# EAGLE library part RKJXM1_V3 (library RKJXM1 Breakout Output Pins v14)
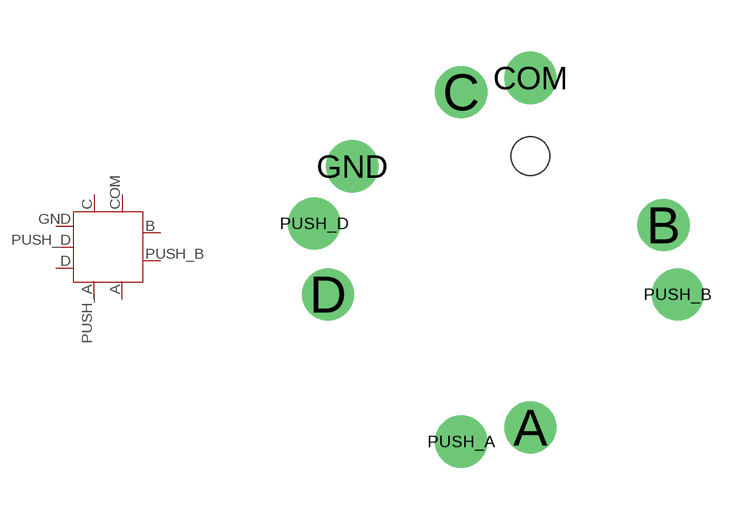
[diagram p0: symbol with the pads of RKJXM1_FOOT_V3; footprint RKJXM1_FOOT_V3]

Designator prefix -

## RKJXM1_V3  [RKJXM1_FOOT_V3]
A  A
B  B
C  C
COM  COM
D  D
GND  GND
PUSH_A  PUSH_A
PUSH_B  PUSH_B
PUSH_D  PUSH_D

## Footprint RKJXM1_FOOT_V3 (pad centres in mm)
drill 1: A 1,-4.848; C -1,4.848; COM 1,5.256; D -4.848,-1; PUSH_A -1,-5.256; PUSH_B 5.256,-1; PUSH_D -5.246,1.05
drill 1 pad 1.5: B 4.848,1; GND -4.15,2.698
hole 1.1 at 1,3